# Altium footprint library C3131.PcbLib: 1 footprints
Each footprint in its own frame and in the unit in brackets; x right, y up, seen from the top. Pads: shape width x height; smd on the part's side, far side on the other; paste and mask are expansions set on the pad; w line width, h text height; cw(c..) or ccw(c..) is an arc to the next point about the centre after c.
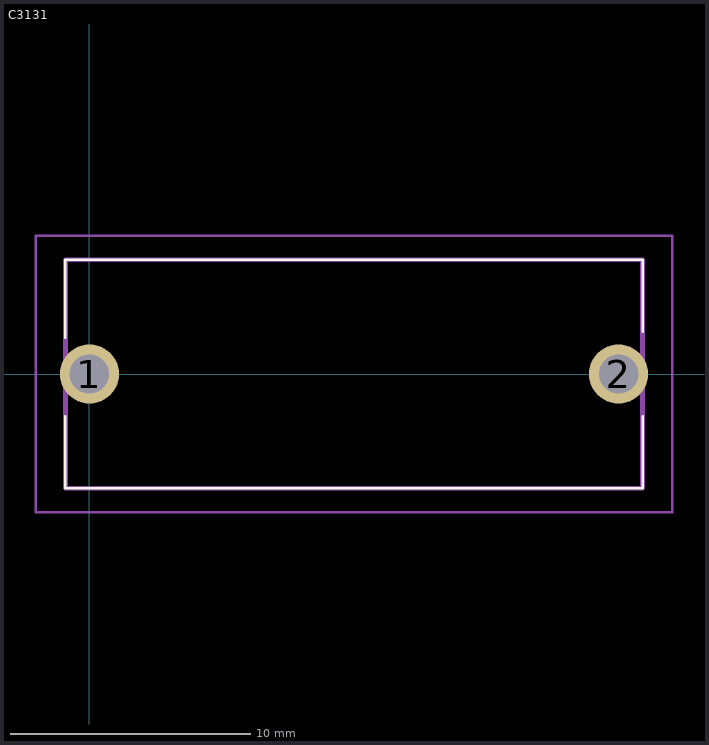
[diagram p0: the footprint, top view; thin cyan lines are the x and y axes]

## C3131 [mm]
pads (2):
  round 2.46 hole 1.64: 1(0,0) 2(22,0)
Top Overlay:
  lines w0.1: -1,-1.75 -1,-4.75 23,-4.75 23,-1.75 ; -1,1.5 -1,4.75 23,4.75 23,1.75
Mechanical 13:
  lines w0.2: -1,-4.75 -1,4.75 23,4.75 23,-4.75 -1,-4.75
Mechanical 15:
  lines w0.1: -2.23,-5.75 -2.23,5.75 24.23,5.75 24.23,-5.75 -2.23,-5.75
3D body "Fuse Holder.STEP": height 13.23, standoff -4.57, extent -3.848,-5.047 23.152,4.953